# EAGLE library part BQ27620 (library isystems)
Ti System Side Battery Fuel Gauge with Dynamic Voltage Correlation Single series cell Li-Ion battery fuel gauge Resides on system board Supports embedded or removable batteries Powered directly from battery with integrated LDO Reports Remaning Capacity and State of Charge with Smoothing Filter Automaticaly adjusts for self-discharge, temperature, and rate changes 400-khz I2C serial interface Configurable SOC Interupt or Battery low digital output warning Internal tmperature sensor or Host reported temperature Operating temperature range: -40 to 85°C Datasheet: http://www.ti.com/lit/ds/symlink/bq27621-g1.pdf
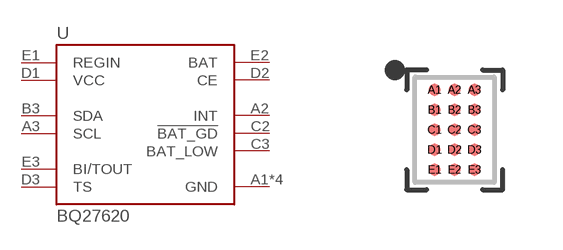
[diagram p12: symbol with the pads of YZF; footprint YZF]

Designator prefix U

## BQ27620YZF  [YZF]
A1  GND  pwr
A2  INT
A3  SCL
B1  GND  pwr
B2  GND  pwr
B3  SDA
C1  GND  pwr
C2  !BAT_GD
C3  BAT_LOW
D1  VCC  pas
D2  CE
D3  TS
E1  REGIN  pas
E2  BAT
E3  BI/TOUT

## Footprint YZF (pad centres in mm)
smd 0.3 x 0.3: A1 -0.5,1; A2 0,1; A3 0.5,1; B1 -0.5,0.5; B2 0,0.5; B3 0.5,0.5; C1 -0.5,0; C2 0,0; C3 0.5,0; D1 -0.5,-0.5; D2 0,-0.5; D3 0.5,-0.5; E1 -0.5,-1; E2 0,-1; E3 0.5,-1